# Altium footprint library Titanium_v0.1.PcbLib: 22 footprints (part 2 of 2)
Each footprint in its own frame and in the unit in brackets; x right, y up, seen from the top. Pads: shape width x height; smd on the part's side, far side on the other; paste and mask are expansions set on the pad; w line width, h text height; cw(c..) or ccw(c..) is an arc to the next point about the centre after c.
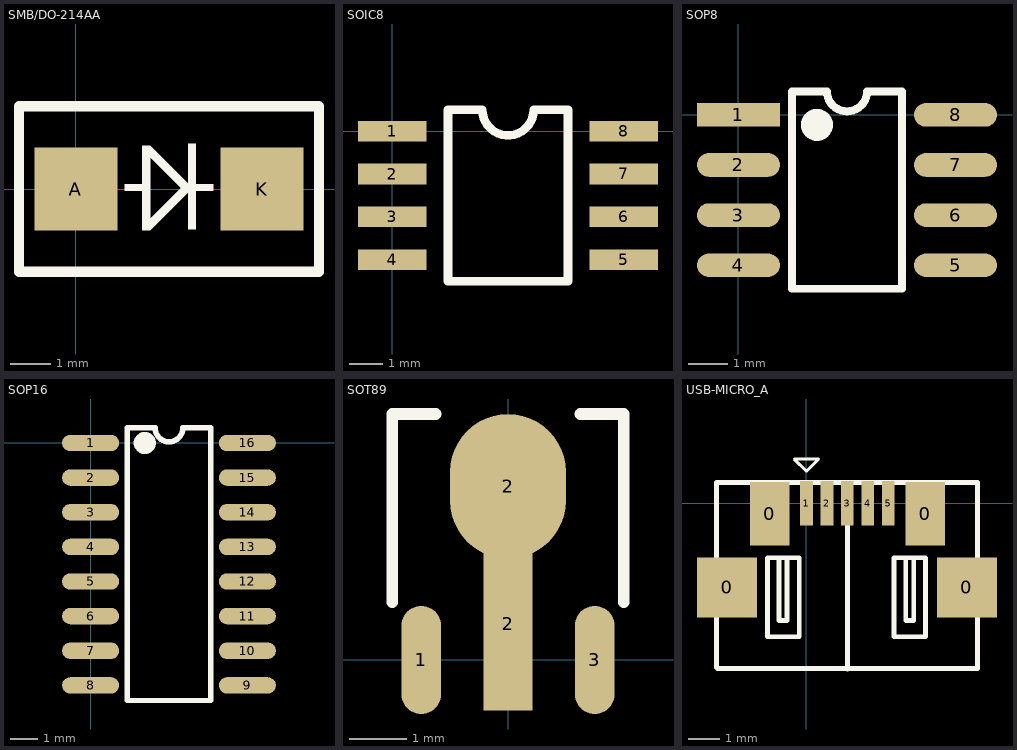
[diagram p1: the footprints below, top view; thin cyan lines are the x and y axes]

## SMB/DO-214AA [mil] "塑封二极管"
height 86.61
pads (2):
  rect 80x80 smd: A(0,0) K(180,0)
Top Overlay:
  region: 133,-2 133,5 114,5 114,-2
  region: 105.57,-3.58 111.58,2.42 72,42 65.99,35.99
  region: 65,-2 65,5 47,5 47,-2
  rectangle: 108.5,-39 116,44
  rectangle: 64,-40 72,42
  region: 111.61,-0.46 105.61,5.55 66.03,-34.03 72.04,-40.04
  lines w10: -55,-80 -55,80 235,80 235,-80 -55,-80
3D body "DO-214AA.STEP": height 98.43, standoff 0, extent -20.24,-78.54 200.24,75

## SOIC8 [mil]
height 86.61
pads (8):
  rect 80x24 smd: 1(0,0) 2(0,-50.06) 3(0,-100.06) 4(0,-150.06) 5(270,-150) 6(270,-100) 7(270,-50) 8(270,0)
Top Overlay:
  lines w10: 75,24.94 75.06,25 105,25 ccw(c135,25) 165,25 204.94,25 205,24.94 205,-175.06 65,-175.06 65,24.94 95,24.94
3D body "SOIC-8.STEP": height 68.7, standoff -0.31, extent 12.97,-173.85 257.03,23

## SOP8 [mm]
height 1.75
pads (8):
  rect 2.1x0.6 smd: 1(0,0)
  oval 2.1x0.6 smd: 2(0,-1.27) 3(0,-2.54) 4(0,-3.81) 5(5.5,-3.81) 6(5.5,-2.54) 7(5.5,-1.27) 8(5.5,0)
Top Overlay:
  circle w0.5: c1.988,-0.254 r0.155
  lines w0.2: 1.353,0.595 1.353,-4.405 4.147,-4.405 4.147,0.595
  lines w0.203: 1.353,0.595 2.242,0.595 ccw(c2.75,0.595) 2.75,0.087 ccw(c2.75,0.595) 3.258,0.595 4.147,0.595
3D body "SOP8.STEP": height 1.9, standoff 0, extent -0.361,-4.369 5.644,0.631

## SOP16 [mm]
height 1.75
pads (16):
  oval 2.1x0.6 smd: 1(0,0) 2(0,-1.27) 3(0,-2.54) 4(0,-3.81) 5(0,-5.08) 6(0,-6.35) 7(0,-7.62) 8(0,-8.89) 9(5.75,-8.89) 10(5.75,-7.62) 11(5.75,-6.35) 12(5.75,-5.08) 13(5.75,-3.81) 14(5.75,-2.54) 15(5.75,-1.27) 16(5.75,0)
Top Overlay:
  circle w0.5: c1.986,0 r0.155
  lines w0.2: 1.351,0.555 1.351,-9.445 4.399,-9.445 4.399,0.555
  lines w0.203: 1.351,0.555 2.367,0.555 ccw(c2.875,0.555) 2.875,0.047 ccw(c2.875,0.555) 3.383,0.555 4.399,0.555
3D body "SOP16.STEP": height 1.9, standoff 0, extent -0.037,-9.445 5.969,0.555

## SOT89 [mil]
height 86.61
pads (4):
  oval 27.56x74.8 smd: 1(-60,0) 3(60,0)
  rect 34x120 smd: 2(0,25)
  oval 80x100 smd: 2(0,120)
Top Overlay:
  lines w8: -80,40 -80,170 -50,170 ; 50,170 80,170 80,40
3D body "SOT-89.STEP": height 59.45, standoff 0, extent -88.58,-12.99 88.59,156.3

## USB-MICRO_A [mm]
height 2.2
pads (9):
  rect 1.9x1.9 smd: 0(-2.515,-2.667) 0(5.08,-2.667)
  rect 1.25x2 smd: 0(-1.168,-0.33) 0(3.759,-0.33)
  rect 0.4x1.4 smd: 1(0,0) 2(0.648,0) 3(1.295,0) 4(1.943,0) 5(2.591,0)
Top Overlay:
  lines w0.1: -0.381,1.397 0,1.016 0.381,1.397 -0.381,1.397
  lines w0.152: -2.845,-5.207 -2.845,0.66 ; -2.819,-5.232 5.385,-5.232 ; -2.794,0.66 5.385,0.66 ; -0.869,-1.728 -0.869,-3.713 -0.666,-3.713 -0.615,-3.713 -0.615,-1.728 ; 1.296,-5.244 1.296,0.635 ; 3.144,-1.728 3.144,-3.713 3.398,-3.713 3.398,-1.728 ; 5.41,-5.232 5.41,0.66 ; -1.23,-4.227 -1.23,-1.728 -0.23,-1.728 -0.23,-4.227 -1.23,-4.227 ; 2.77,-4.227 3.77,-4.227 3.77,-1.728 2.77,-1.728 2.77,-4.227
3D body "USB-MICRO_A.STEP": height 2.69, standoff -0.24, extent -2.712,-5.08 5.252,0.342